# Altium schematic symbol library M4.SchLib: 1 symbol
Pins are listed as number, name and electrical type; pins without a type are passive.

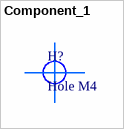
[diagram p0: symbol Component_1]

## Component_1
designator H?, comment Hole M4
footprint M4_Hole